# Altium footprint library Package_DIP.PcbLib: 281 footprints (part 14 of 18)
Each footprint in its own frame and in the unit in brackets; x right, y up, seen from the top. Pads: shape width x height; smd on the part's side, far side on the other; paste and mask are expansions set on the pad; w line width, h text height; cw(c..) or ccw(c..) is an arc to the next point about the centre after c.
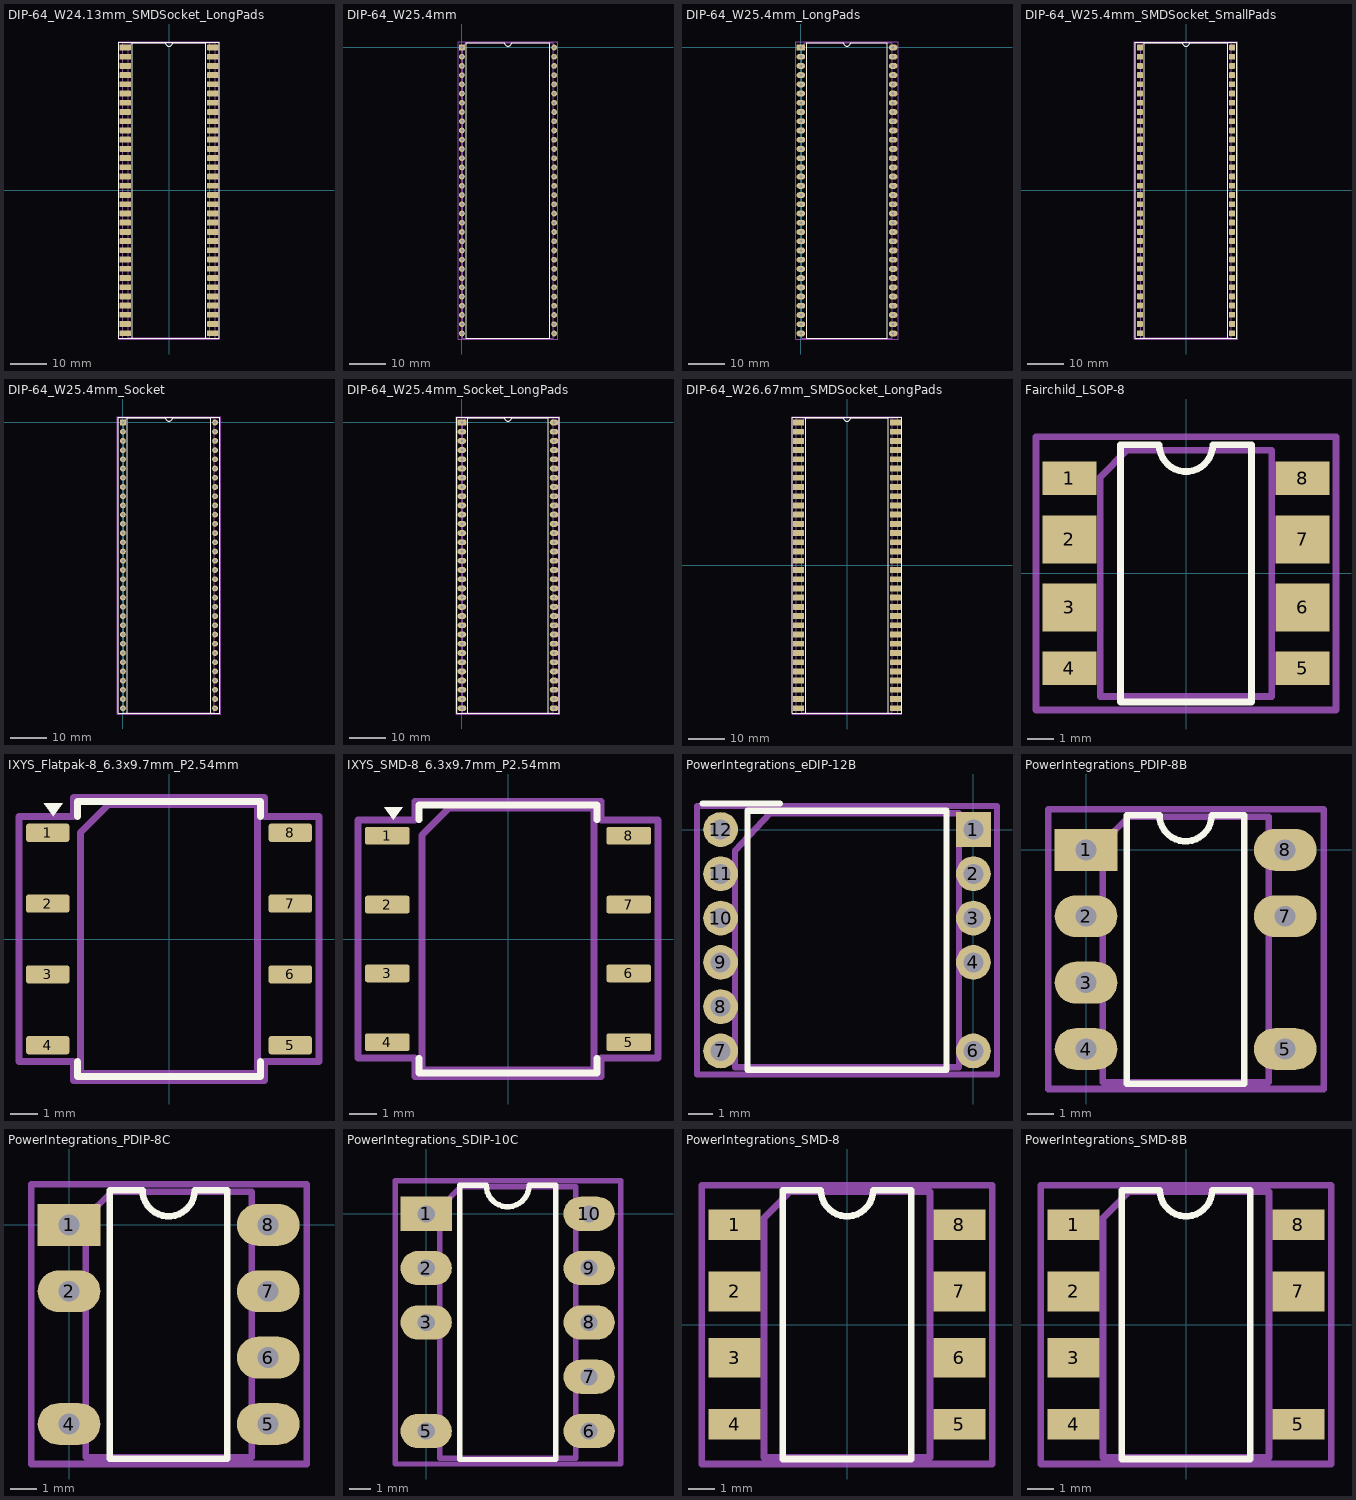
[diagram p13: the footprints below, top view; thin cyan lines are the x and y axes]

## DIP-64_W24.13mm_SMDSocket_LongPads [mm]
pads (64):
  rrect16% 3.1x1.6 smd: 1(-12.065,39.37) 2(-12.065,36.83) 3(-12.065,34.29) 4(-12.065,31.75) 5(-12.065,29.21) 6(-12.065,26.67) 7(-12.065,24.13) 8(-12.065,21.59) 9(-12.065,19.05) 10(-12.065,16.51) 11(-12.065,13.97) 12(-12.065,11.43) 13(-12.065,8.89) 14(-12.065,6.35) 15(-12.065,3.81) 16(-12.065,1.27) 17(-12.065,-1.27) 18(-12.065,-3.81) 19(-12.065,-6.35) 20(-12.065,-8.89) 21(-12.065,-11.43) 22(-12.065,-13.97) 23(-12.065,-16.51) 24(-12.065,-19.05) 25(-12.065,-21.59) 26(-12.065,-24.13) 27(-12.065,-26.67) 28(-12.065,-29.21) 29(-12.065,-31.75) 30(-12.065,-34.29) 31(-12.065,-36.83) 32(-12.065,-39.37) 33(12.065,-39.37) 34(12.065,-36.83) 35(12.065,-34.29) 36(12.065,-31.75) 37(12.065,-29.21) 38(12.065,-26.67) 39(12.065,-24.13) 40(12.065,-21.59) 41(12.065,-19.05) 42(12.065,-16.51) 43(12.065,-13.97) 44(12.065,-11.43) 45(12.065,-8.89) 46(12.065,-6.35) 47(12.065,-3.81) 48(12.065,-1.27) 49(12.065,1.27) 50(12.065,3.81) 51(12.065,6.35) 52(12.065,8.89) 53(12.065,11.43) 54(12.065,13.97) 55(12.065,16.51) 56(12.065,19.05) 57(12.065,21.59) 58(12.065,24.13) 59(12.065,26.67) 60(12.065,29.21) 61(12.065,31.75) 62(12.065,34.29) 63(12.065,36.83) 64(12.065,39.37)
F.SilkS:
  lines w0.254: -13.855,-40.76 13.855,-40.76 13.855,40.76 -13.855,40.76 -13.855,-40.76 ; -10.155,-40.7 10.155,-40.7 10.155,40.7 1,40.7 cw(c0,40.7) -1,40.7 -10.155,40.7 -10.155,-40.7
Top Assembly:
  lines w0.254: -12.7,-40.7 12.7,-40.7 12.7,40.7 -12.7,40.7 -12.7,-40.7 ; -11.175,-40.64 11.175,-40.64 11.175,40.64 -10.175,40.64 -11.175,39.64 -11.175,-40.64
  text "'.Designator'" at 0.84,-4.047 h1
Top Courtyard:
  lines w0.254: -13.87,-40.95 13.87,-40.95 13.87,40.95 -13.87,40.95 -13.87,-40.95
Top Designator:
  text ".Designator" at -7.618,-0.508 h1.52

## DIP-64_W25.4mm [mm]
pads (64):
  rrect16% 1.6x1.6 hole 0.8: 1(0,0)
  round 1.6 hole 0.8: 2(0,-2.54) 3(0,-5.08) 4(0,-7.62) 5(0,-10.16) 6(0,-12.7) 7(0,-15.24) 8(0,-17.78) 9(0,-20.32) 10(0,-22.86) 11(0,-25.4) 12(0,-27.94) 13(0,-30.48) 14(0,-33.02) 15(0,-35.56) 16(0,-38.1) 17(0,-40.64) 18(0,-43.18) 19(0,-45.72) 20(0,-48.26) 21(0,-50.8) 22(0,-53.34) 23(0,-55.88) 24(0,-58.42) 25(0,-60.96) 26(0,-63.5) 27(0,-66.04) 28(0,-68.58) 29(0,-71.12) 30(0,-73.66) 31(0,-76.2) 32(0,-78.74) 33(25.4,-78.74) 34(25.4,-76.2) 35(25.4,-73.66) 36(25.4,-71.12) 37(25.4,-68.58) 38(25.4,-66.04) 39(25.4,-63.5) 40(25.4,-60.96) 41(25.4,-58.42) 42(25.4,-55.88) 43(25.4,-53.34) 44(25.4,-50.8) 45(25.4,-48.26) 46(25.4,-45.72) 47(25.4,-43.18) 48(25.4,-40.64) 49(25.4,-38.1) 50(25.4,-35.56) 51(25.4,-33.02) 52(25.4,-30.48) 53(25.4,-27.94) 54(25.4,-25.4) 55(25.4,-22.86) 56(25.4,-20.32) 57(25.4,-17.78) 58(25.4,-15.24) 59(25.4,-12.7) 60(25.4,-10.16) 61(25.4,-7.62) 62(25.4,-5.08) 63(25.4,-2.54) 64(25.4,0)
F.SilkS:
  lines w0.254: 1.16,-80.07 24.24,-80.07 24.24,1.33 13.7,1.33 cw(c12.7,1.33) 11.7,1.33 1.16,1.33 1.16,-80.07
Top Assembly:
  lines w0.254: 0.255,-80.01 25.145,-80.01 25.145,1.27 1.255,1.27 0.255,0.27 0.255,-80.01
  text "'.Designator'" at 13.54,-43.417 h1
Top Courtyard:
  lines w0.254: -1.06,-80.26 26.45,-80.26 26.45,1.52 -1.06,1.52 -1.06,-80.26
Top Designator:
  text ".Designator" at 5.077,-39.878 h1.52

## DIP-64_W25.4mm_LongPads [mm]
pads (64):
  rrect16% 2.4x1.6 hole 0.8: 1(0,0)
  rrect100% 2.4x1.6 hole 0.8: 2(0,-2.54) 3(0,-5.08) 4(0,-7.62) 5(0,-10.16) 6(0,-12.7) 7(0,-15.24) 8(0,-17.78) 9(0,-20.32) 10(0,-22.86) 11(0,-25.4) 12(0,-27.94) 13(0,-30.48) 14(0,-33.02) 15(0,-35.56) 16(0,-38.1) 17(0,-40.64) 18(0,-43.18) 19(0,-45.72) 20(0,-48.26) 21(0,-50.8) 22(0,-53.34) 23(0,-55.88) 24(0,-58.42) 25(0,-60.96) 26(0,-63.5) 27(0,-66.04) 28(0,-68.58) 29(0,-71.12) 30(0,-73.66) 31(0,-76.2) 32(0,-78.74) 33(25.4,-78.74) 34(25.4,-76.2) 35(25.4,-73.66) 36(25.4,-71.12) 37(25.4,-68.58) 38(25.4,-66.04) 39(25.4,-63.5) 40(25.4,-60.96) 41(25.4,-58.42) 42(25.4,-55.88) 43(25.4,-53.34) 44(25.4,-50.8) 45(25.4,-48.26) 46(25.4,-45.72) 47(25.4,-43.18) 48(25.4,-40.64) 49(25.4,-38.1) 50(25.4,-35.56) 51(25.4,-33.02) 52(25.4,-30.48) 53(25.4,-27.94) 54(25.4,-25.4) 55(25.4,-22.86) 56(25.4,-20.32) 57(25.4,-17.78) 58(25.4,-15.24) 59(25.4,-12.7) 60(25.4,-10.16) 61(25.4,-7.62) 62(25.4,-5.08) 63(25.4,-2.54) 64(25.4,0)
F.SilkS:
  lines w0.254: 1.56,-80.07 23.84,-80.07 23.84,1.33 13.7,1.33 cw(c12.7,1.33) 11.7,1.33 1.56,1.33 1.56,-80.07
Top Assembly:
  lines w0.254: 0.255,-80.01 25.145,-80.01 25.145,1.27 1.255,1.27 0.255,0.27 0.255,-80.01
  text "'.Designator'" at 13.54,-43.417 h1
Top Courtyard:
  lines w0.254: -1.45,-80.26 26.85,-80.26 26.85,1.52 -1.45,1.52 -1.45,-80.26
Top Designator:
  text ".Designator" at 5.082,-39.878 h1.52

## DIP-64_W25.4mm_SMDSocket_SmallPads [mm]
pads (64):
  rrect16% 1.6x1.6 smd: 1(-12.7,39.37) 2(-12.7,36.83) 3(-12.7,34.29) 4(-12.7,31.75) 5(-12.7,29.21) 6(-12.7,26.67) 7(-12.7,24.13) 8(-12.7,21.59) 9(-12.7,19.05) 10(-12.7,16.51) 11(-12.7,13.97) 12(-12.7,11.43) 13(-12.7,8.89) 14(-12.7,6.35) 15(-12.7,3.81) 16(-12.7,1.27) 17(-12.7,-1.27) 18(-12.7,-3.81) 19(-12.7,-6.35) 20(-12.7,-8.89) 21(-12.7,-11.43) 22(-12.7,-13.97) 23(-12.7,-16.51) 24(-12.7,-19.05) 25(-12.7,-21.59) 26(-12.7,-24.13) 27(-12.7,-26.67) 28(-12.7,-29.21) 29(-12.7,-31.75) 30(-12.7,-34.29) 31(-12.7,-36.83) 32(-12.7,-39.37) 33(12.7,-39.37) 34(12.7,-36.83) 35(12.7,-34.29) 36(12.7,-31.75) 37(12.7,-29.21) 38(12.7,-26.67) 39(12.7,-24.13) 40(12.7,-21.59) 41(12.7,-19.05) 42(12.7,-16.51) 43(12.7,-13.97) 44(12.7,-11.43) 45(12.7,-8.89) 46(12.7,-6.35) 47(12.7,-3.81) 48(12.7,-1.27) 49(12.7,1.27) 50(12.7,3.81) 51(12.7,6.35) 52(12.7,8.89) 53(12.7,11.43) 54(12.7,13.97) 55(12.7,16.51) 56(12.7,19.05) 57(12.7,21.59) 58(12.7,24.13) 59(12.7,26.67) 60(12.7,29.21) 61(12.7,31.75) 62(12.7,34.29) 63(12.7,36.83) 64(12.7,39.37)
F.SilkS:
  lines w0.254: -14.03,-40.76 14.03,-40.76 14.03,40.76 -14.03,40.76 -14.03,-40.76 ; -11.54,-40.7 11.54,-40.7 11.54,40.7 1,40.7 cw(c0,40.7) -1,40.7 -11.54,40.7 -11.54,-40.7
Top Assembly:
  lines w0.254: -13.97,-40.7 13.97,-40.7 13.97,40.7 -13.97,40.7 -13.97,-40.7 ; -12.445,-40.64 12.445,-40.64 12.445,40.64 -11.445,40.64 -12.445,39.64 -12.445,-40.64
  text "'.Designator'" at 0.84,-4.047 h1
Top Courtyard:
  lines w0.254: -14.22,-40.95 14.22,-40.95 14.22,40.95 -14.22,40.95 -14.22,-40.95
Top Designator:
  text ".Designator" at -7.618,-0.508 h1.52

## DIP-64_W25.4mm_Socket [mm]
pads (64):
  rrect16% 1.6x1.6 hole 0.8: 1(0,0)
  round 1.6 hole 0.8: 2(0,-2.54) 3(0,-5.08) 4(0,-7.62) 5(0,-10.16) 6(0,-12.7) 7(0,-15.24) 8(0,-17.78) 9(0,-20.32) 10(0,-22.86) 11(0,-25.4) 12(0,-27.94) 13(0,-30.48) 14(0,-33.02) 15(0,-35.56) 16(0,-38.1) 17(0,-40.64) 18(0,-43.18) 19(0,-45.72) 20(0,-48.26) 21(0,-50.8) 22(0,-53.34) 23(0,-55.88) 24(0,-58.42) 25(0,-60.96) 26(0,-63.5) 27(0,-66.04) 28(0,-68.58) 29(0,-71.12) 30(0,-73.66) 31(0,-76.2) 32(0,-78.74) 33(25.4,-78.74) 34(25.4,-76.2) 35(25.4,-73.66) 36(25.4,-71.12) 37(25.4,-68.58) 38(25.4,-66.04) 39(25.4,-63.5) 40(25.4,-60.96) 41(25.4,-58.42) 42(25.4,-55.88) 43(25.4,-53.34) 44(25.4,-50.8) 45(25.4,-48.26) 46(25.4,-45.72) 47(25.4,-43.18) 48(25.4,-40.64) 49(25.4,-38.1) 50(25.4,-35.56) 51(25.4,-33.02) 52(25.4,-30.48) 53(25.4,-27.94) 54(25.4,-25.4) 55(25.4,-22.86) 56(25.4,-20.32) 57(25.4,-17.78) 58(25.4,-15.24) 59(25.4,-12.7) 60(25.4,-10.16) 61(25.4,-7.62) 62(25.4,-5.08) 63(25.4,-2.54) 64(25.4,0)
F.SilkS:
  lines w0.254: -1.33,-80.13 26.73,-80.13 26.73,1.39 -1.33,1.39 -1.33,-80.13 ; 1.16,-80.07 24.24,-80.07 24.24,1.33 13.7,1.33 cw(c12.7,1.33) 11.7,1.33 1.16,1.33 1.16,-80.07
Top Assembly:
  lines w0.254: -1.27,-80.07 26.67,-80.07 26.67,1.33 -1.27,1.33 -1.27,-80.07 ; 0.255,-80.01 25.145,-80.01 25.145,1.27 1.255,1.27 0.255,0.27 0.255,-80.01
  text "'.Designator'" at 13.54,-43.417 h1
Top Courtyard:
  lines w0.254: -1.52,-80.32 26.92,-80.32 26.92,1.58 -1.52,1.58 -1.52,-80.32
Top Designator:
  text ".Designator" at 5.082,-39.878 h1.52

## DIP-64_W25.4mm_Socket_LongPads [mm]
pads (64):
  rrect16% 2.4x1.6 hole 0.8: 1(0,0)
  rrect100% 2.4x1.6 hole 0.8: 2(0,-2.54) 3(0,-5.08) 4(0,-7.62) 5(0,-10.16) 6(0,-12.7) 7(0,-15.24) 8(0,-17.78) 9(0,-20.32) 10(0,-22.86) 11(0,-25.4) 12(0,-27.94) 13(0,-30.48) 14(0,-33.02) 15(0,-35.56) 16(0,-38.1) 17(0,-40.64) 18(0,-43.18) 19(0,-45.72) 20(0,-48.26) 21(0,-50.8) 22(0,-53.34) 23(0,-55.88) 24(0,-58.42) 25(0,-60.96) 26(0,-63.5) 27(0,-66.04) 28(0,-68.58) 29(0,-71.12) 30(0,-73.66) 31(0,-76.2) 32(0,-78.74) 33(25.4,-78.74) 34(25.4,-76.2) 35(25.4,-73.66) 36(25.4,-71.12) 37(25.4,-68.58) 38(25.4,-66.04) 39(25.4,-63.5) 40(25.4,-60.96) 41(25.4,-58.42) 42(25.4,-55.88) 43(25.4,-53.34) 44(25.4,-50.8) 45(25.4,-48.26) 46(25.4,-45.72) 47(25.4,-43.18) 48(25.4,-40.64) 49(25.4,-38.1) 50(25.4,-35.56) 51(25.4,-33.02) 52(25.4,-30.48) 53(25.4,-27.94) 54(25.4,-25.4) 55(25.4,-22.86) 56(25.4,-20.32) 57(25.4,-17.78) 58(25.4,-15.24) 59(25.4,-12.7) 60(25.4,-10.16) 61(25.4,-7.62) 62(25.4,-5.08) 63(25.4,-2.54) 64(25.4,0)
F.SilkS:
  lines w0.254: -1.44,-80.13 26.84,-80.13 26.84,1.39 -1.44,1.39 -1.44,-80.13 ; 1.56,-80.07 23.84,-80.07 23.84,1.33 13.7,1.33 cw(c12.7,1.33) 11.7,1.33 1.56,1.33 1.56,-80.07
Top Assembly:
  lines w0.254: -1.27,-80.07 26.67,-80.07 26.67,1.33 -1.27,1.33 -1.27,-80.07 ; 0.255,-80.01 25.145,-80.01 25.145,1.27 1.255,1.27 0.255,0.27 0.255,-80.01
  text "'.Designator'" at 13.54,-43.417 h1
Top Courtyard:
  lines w0.254: -1.52,-80.32 26.92,-80.32 26.92,1.58 -1.52,1.58 -1.52,-80.32
Top Designator:
  text ".Designator" at 5.082,-39.878 h1.52

## DIP-64_W26.67mm_SMDSocket_LongPads [mm]
pads (64):
  rrect16% 3.1x1.6 smd: 1(-13.335,39.37) 2(-13.335,36.83) 3(-13.335,34.29) 4(-13.335,31.75) 5(-13.335,29.21) 6(-13.335,26.67) 7(-13.335,24.13) 8(-13.335,21.59) 9(-13.335,19.05) 10(-13.335,16.51) 11(-13.335,13.97) 12(-13.335,11.43) 13(-13.335,8.89) 14(-13.335,6.35) 15(-13.335,3.81) 16(-13.335,1.27) 17(-13.335,-1.27) 18(-13.335,-3.81) 19(-13.335,-6.35) 20(-13.335,-8.89) 21(-13.335,-11.43) 22(-13.335,-13.97) 23(-13.335,-16.51) 24(-13.335,-19.05) 25(-13.335,-21.59) 26(-13.335,-24.13) 27(-13.335,-26.67) 28(-13.335,-29.21) 29(-13.335,-31.75) 30(-13.335,-34.29) 31(-13.335,-36.83) 32(-13.335,-39.37) 33(13.335,-39.37) 34(13.335,-36.83) 35(13.335,-34.29) 36(13.335,-31.75) 37(13.335,-29.21) 38(13.335,-26.67) 39(13.335,-24.13) 40(13.335,-21.59) 41(13.335,-19.05) 42(13.335,-16.51) 43(13.335,-13.97) 44(13.335,-11.43) 45(13.335,-8.89) 46(13.335,-6.35) 47(13.335,-3.81) 48(13.335,-1.27) 49(13.335,1.27) 50(13.335,3.81) 51(13.335,6.35) 52(13.335,8.89) 53(13.335,11.43) 54(13.335,13.97) 55(13.335,16.51) 56(13.335,19.05) 57(13.335,21.59) 58(13.335,24.13) 59(13.335,26.67) 60(13.335,29.21) 61(13.335,31.75) 62(13.335,34.29) 63(13.335,36.83) 64(13.335,39.37)
F.SilkS:
  lines w0.254: -15.125,-40.76 15.125,-40.76 15.125,40.76 -15.125,40.76 -15.125,-40.76 ; -11.425,-40.7 11.425,-40.7 11.425,40.7 1,40.7 cw(c0,40.7) -1,40.7 -11.425,40.7 -11.425,-40.7
Top Assembly:
  lines w0.254: -13.97,-40.7 13.97,-40.7 13.97,40.7 -13.97,40.7 -13.97,-40.7 ; -12.445,-40.64 12.445,-40.64 12.445,40.64 -11.445,40.64 -12.445,39.64 -12.445,-40.64
  text "'.Designator'" at 0.84,-4.047 h1
Top Courtyard:
  lines w0.254: -15.14,-40.95 15.14,-40.95 15.14,40.95 -15.14,40.95 -15.14,-40.95
Top Designator:
  text ".Designator" at -7.618,-0.508 h1.52

## Fairchild_LSOP-8 [mm]
pads (8):
  rect 2x1.252 smd: 1(-4.35,3.544) 4(-4.35,-3.544) 5(4.35,-3.544) 8(4.35,3.544)
  rect 2x1.784 smd: 2(-4.35,1.27) 3(-4.35,-1.27) 6(4.35,-1.27) 7(4.35,1.27)
F.SilkS:
  lines w0.254: -2.45,-4.8 -2.45,4.8 -1,4.8 ccw(c0,4.8) 1,4.8 2.45,4.8 2.45,-4.8 ; -2.4,-4.8 2.4,-4.8
Top Assembly:
  lines w0.254: -3.2,-4.6 3.2,-4.6 3.2,4.6 -2.2,4.6 -3.2,3.6 -3.2,-4.6
  text "'.Designator'" at -4.047,-0.84 h1
Top Courtyard:
  lines w0.254: -5.6,-5.1 5.6,-5.1 5.6,5.1 -5.6,5.1 -5.6,-5.1
Top Designator:
  text ".Designator" at -7.618,-0.508 h1.52

## IXYS_Flatpak-8_6.3x9.7mm_P2.54mm [mm]
pads (8):
  rrect25% 1.55x0.65 smd: 1(-4.35,3.81) 2(-4.35,1.27) 3(-4.35,-1.27) 4(-4.35,-3.81) 5(4.35,-3.81) 6(4.35,-1.27) 7(4.35,1.27) 8(4.35,3.81)
F.SilkS:
  region: -4.15,4.395 -4.49,4.865 -3.81,4.865
  lines w0.254: -3.285,-4.395 -3.285,-4.936 0,-4.936 3.285,-4.936 3.285,-4.395 ; -3.285,4.395 -3.285,4.936 0,4.936 3.285,4.936 3.285,4.395
Top Assembly:
  lines w0.254: -3.175,-4.826 3.175,-4.826 3.175,4.826 -2.175,4.826 -3.175,3.826 -3.175,-4.826
  text "'.Designator'" at -4.047,-0.84 h1
Top Courtyard:
  lines w0.254: -5.38,-4.39 -3.43,-4.39 -3.43,-5.08 3.43,-5.08 3.43,-4.39 5.38,-4.39 5.38,4.39 3.43,4.39 3.43,5.08 -3.43,5.08 -3.43,4.39 -5.38,4.39 -5.38,-4.39
Top Designator:
  text ".Designator" at -7.618,-0.508 h1.52

## IXYS_SMD-8_6.3x9.7mm_P2.54mm [mm]
pads (8):
  rrect25% 1.65x0.65 smd: 1(-4.45,3.81) 2(-4.45,1.27) 3(-4.45,-1.27) 4(-4.45,-3.81) 5(4.45,-3.81) 6(4.45,-1.27) 7(4.45,1.27) 8(4.45,3.81)
F.SilkS:
  region: -4.225,4.395 -4.565,4.865 -3.885,4.865
  lines w0.254: -3.285,-4.395 -3.285,-4.936 0,-4.936 3.285,-4.936 3.285,-4.395 ; -3.285,4.395 -3.285,4.936 0,4.936 3.285,4.936 3.285,4.395
Top Assembly:
  lines w0.254: -3.175,-4.826 3.175,-4.826 3.175,4.826 -2.175,4.826 -3.175,3.826 -3.175,-4.826
  text "'.Designator'" at -4.047,-0.84 h1
Top Courtyard:
  lines w0.254: -5.53,-4.39 -3.43,-4.39 -3.43,-5.08 3.43,-5.08 3.43,-4.39 5.53,-4.39 5.53,4.39 3.43,4.39 3.43,5.08 -3.43,5.08 -3.43,4.39 -5.53,4.39 -5.53,-4.39
Top Designator:
  text ".Designator" at -7.618,-0.508 h1.52

## PowerIntegrations_eDIP-12B [mm]
pads (11):
  rect 1.4x1.4 hole 0.8: 1(0,0)
  rrect100% 1.4x1.4 hole 0.8: 2(0,-1.78) 3(0,-3.56) 4(0,-5.34) 6(0,-8.9) 7(-10.16,-8.9) 8(-10.16,-7.12) 9(-10.16,-5.34) 10(-10.16,-3.56) 11(-10.16,-1.78)
  round 1.4 hole 0.8: 12(-10.16,0)
F.SilkS:
  lines w0.254: -10.88,1.05 -7.78,1.05 ; -9.08,-9.65 -1.08,-9.65 -1.08,0.75 -9.08,0.75 -9.08,-9.65
Top Assembly:
  lines w0.254: -9.58,-9.55 -0.58,-9.55 -0.58,0.65 -8.18,0.65 -9.58,-0.85 -9.58,-9.55
  text "'.Designator'" at -9.127,-5.29 h1
Top Courtyard:
  lines w0.254: -11.11,-9.85 0.95,-9.85 0.95,0.95 -11.11,0.95 -11.11,-9.85
Top Designator:
  text ".Designator" at -12.698,-4.908 h1.52

## PowerIntegrations_PDIP-8B [mm]
pads (7):
  rect 2.4x1.6 hole 0.8: 1(0,0)
  rrect100% 2.4x1.6 hole 0.8: 2(0,-2.54) 3(0,-5.08) 4(0,-7.62) 5(7.62,-7.62) 7(7.62,-2.54) 8(7.62,0)
F.SilkS:
  lines w0.254: 1.56,-8.95 6.06,-8.95 6.06,1.33 4.81,1.33 cw(c3.81,1.33) 2.81,1.33 1.56,1.33 1.56,-8.95
Top Assembly:
  lines w0.254: 0.635,-8.89 6.985,-8.89 6.985,1.27 1.635,1.27 0.635,0.27 0.635,-8.89
  text "'.Designator'" at -0.237,-4.65 h1
Top Courtyard:
  lines w0.254: -1.45,-9.15 9.1,-9.15 9.1,1.55 -1.45,1.55 -1.45,-9.15
Top Designator:
  text ".Designator" at -3.793,-4.308 h1.52

## PowerIntegrations_PDIP-8C [mm]
pads (7):
  rect 2.4x1.6 hole 0.8: 1(0,0)
  rrect100% 2.4x1.6 hole 0.8: 2(0,-2.54) 4(0,-7.62) 5(7.62,-7.62) 6(7.62,-5.08) 7(7.62,-2.54) 8(7.62,0)
F.SilkS:
  lines w0.254: 1.56,-8.95 6.06,-8.95 6.06,1.33 4.81,1.33 cw(c3.81,1.33) 2.81,1.33 1.56,1.33 1.56,-8.95
Top Assembly:
  lines w0.254: 0.635,-8.89 6.985,-8.89 6.985,1.27 1.635,1.27 0.635,0.27 0.635,-8.89
  text "'.Designator'" at -0.237,-4.65 h1
Top Courtyard:
  lines w0.254: -1.45,-9.15 9.1,-9.15 9.1,1.55 -1.45,1.55 -1.45,-9.15
Top Designator:
  text ".Designator" at -3.793,-4.308 h1.52

## PowerIntegrations_SDIP-10C [mm]
pads (9):
  rect 2.4x1.6 hole 0.8: 1(0,0)
  rrect100% 2.4x1.6 hole 0.8: 2(0,-2.54) 3(0,-5.08) 5(0,-10.16) 6(7.62,-10.16) 7(7.62,-7.62) 8(7.62,-5.08) 9(7.62,-2.54) 10(7.62,0)
F.SilkS:
  lines w0.254: 1.56,-11.49 6.06,-11.49 6.06,1.33 4.81,1.33 cw(c3.81,1.33) 2.81,1.33 1.56,1.33 1.56,-11.49
Top Assembly:
  lines w0.254: 0.635,-11.43 6.985,-11.43 6.985,1.27 1.635,1.27 0.635,0.27 0.635,-11.43
  text "'.Designator'" at -0.237,-5.92 h1
Top Courtyard:
  lines w0.254: -1.45,-11.7 9.1,-11.7 9.1,1.55 -1.45,1.55 -1.45,-11.7
Top Designator:
  text ".Designator" at -3.793,-5.583 h1.52

## PowerIntegrations_SMD-8 [mm]
pads (8):
  rect 2x1.17 smd: 1(-4.3,3.81) 4(-4.3,-3.81) 5(4.3,-3.81) 8(4.3,3.81)
  rect 2x1.52 smd: 2(-4.3,1.27) 3(-4.3,-1.27) 6(4.3,-1.27) 7(4.3,1.27)
F.SilkS:
  lines w0.254: -2.45,-5.14 2.45,-5.14 2.45,5.14 1,5.14 cw(c0,5.14) -1,5.14 -2.45,5.14 -2.45,-5.14
Top Assembly:
  lines w0.254: -3.175,-5.08 3.175,-5.08 3.175,5.08 -2.175,5.08 -3.175,4.08 -3.175,-5.08
  text "'.Designator'" at -4.047,-0.84 h1
Top Courtyard:
  lines w0.254: -5.55,-5.33 5.55,-5.33 5.55,5.33 -5.55,5.33 -5.55,-5.33
Top Designator:
  text ".Designator" at -7.618,-0.508 h1.52

## PowerIntegrations_SMD-8B [mm]
pads (7):
  rect 2x1.17 smd: 1(-4.3,3.81) 4(-4.3,-3.81) 5(4.3,-3.81) 8(4.3,3.81)
  rect 2x1.52 smd: 2(-4.3,1.27) 3(-4.3,-1.27) 7(4.3,1.27)
F.SilkS:
  lines w0.254: -2.45,-5.14 2.45,-5.14 2.45,5.14 1,5.14 cw(c0,5.14) -1,5.14 -2.45,5.14 -2.45,-5.14
Top Assembly:
  lines w0.254: -3.175,-5.08 3.175,-5.08 3.175,5.08 -2.175,5.08 -3.175,4.08 -3.175,-5.08
  text "'.Designator'" at -4.047,-0.84 h1
Top Courtyard:
  lines w0.254: -5.55,-5.33 5.55,-5.33 5.55,5.33 -5.55,5.33 -5.55,-5.33
Top Designator:
  text ".Designator" at -7.618,-0.508 h1.52